# Altium footprint library mosfets.PcbLib: 5 footprints
Each footprint in its own frame and in the unit in brackets; x right, y up, seen from the top. Pads: shape width x height; smd on the part's side, far side on the other; paste and mask are expansions set on the pad; w line width, h text height; cw(c..) or ccw(c..) is an arc to the next point about the centre after c.
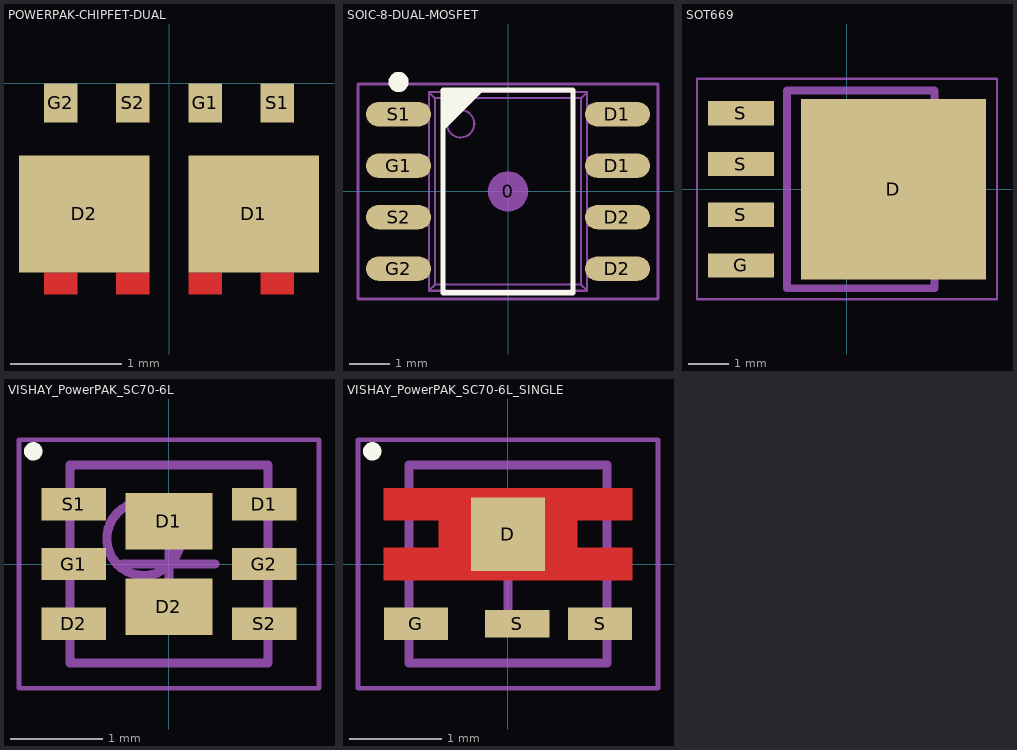
[diagram p0: the footprints below, top view; thin cyan lines are the x and y axes]

## POWERPAK-CHIPFET-DUAL [mm]
pads (6):
  rect 1.175x1.05 smd: D1(0.763,-1.175) D2(-0.763,-1.175)
  rect 0.3x0.35 smd: G1(0.325,-0.175) G2(-0.975,-0.175) S1(0.975,-0.175) S2(-0.325,-0.175)
Top Layer:
  rectangle: 0.825,-1.9 1.125,-1.7
  rectangle: 0.175,-1.9 0.475,-1.7
  rectangle: -0.475,-1.9 -0.175,-1.7
  rectangle: -1.125,-1.9 -0.825,-1.7
3D body: height 0.75, standoff 0, extent -1.5,-1.9 1.5,0

## SOIC-8-DUAL-MOSFET [mm]
pads (9):
  round 1 on Mech15: 0(0,0)
  oval 1.6x0.6 smd: D1(2.7,0.635) D1(2.7,1.905) D2(2.7,-1.905) D2(2.7,-0.635) G1(-2.7,0.635) G2(-2.7,-1.905) S1(-2.7,1.905) S2(-2.7,-0.635)
Top Overlay:
  circle w0.25: c-2.7,2.7 r0.125
  region: -1.6,2.5 -0.6,2.5 -1.6,1.5
  lines w0.127: -1.6,-2.5 -1.6,2.5 1.6,2.5 1.6,-2.5 -1.6,-2.5
Mechanical 13:
  circle w0.05: c-1.17,1.67 r0.338
  lines w0.05: -2.631,-2.115 -2.631,-1.695 ; -2.631,-0.845 -2.631,-0.425 ; -2.631,0.425 -2.631,0.845 ; -2.631,1.695 -2.631,2.115 ; -2.543,-2.115 -2.543,-1.695 ; -2.543,-0.845 -2.543,-0.425 ; -2.543,0.425 -2.543,0.845 ; -2.543,1.695 -2.543,2.115 ; -2.403,-2.115 -2.403,-1.695 ; -2.403,-0.845 -2.403,-0.425 ; -2.403,0.425 -2.403,0.845 ; -2.403,1.695 -2.403,2.115 ; -2.113,-2.115 -2.113,-1.695 ; -2.113,-0.845 -2.113,-0.425 ; -2.113,0.425 -2.113,0.845 ; -2.113,1.695 -2.113,2.115 ; -1.95,-2.115 -3,-2.115 -3,-1.695 -1.95,-1.695 ; -1.95,-0.845 -3,-0.845 -3,-0.425 -1.95,-0.425 ; -1.95,0.425 -3,0.425 -3,0.845 -1.95,0.845 ; -1.95,1.695 -3,1.695 -3,2.115 -1.95,2.115 ; 1.95,-2.115 3,-2.115 3,-1.695 1.95,-1.695 ; 1.95,-0.845 3,-0.845 3,-0.425 1.95,-0.425 ; 1.95,0.425 3,0.425 3,0.845 1.95,0.845 ; 1.95,1.695 3,1.695 3,2.115 1.95,2.115 ; 2.113,-2.115 2.113,-1.695 ; 2.113,-0.845 2.113,-0.425 ; 2.113,0.425 2.113,0.845 ; 2.113,1.695 2.113,2.115 ; 2.403,-2.115 2.403,-1.695 ; 2.403,-0.845 2.403,-0.425 ; 2.403,0.425 2.403,0.845 ; 2.403,1.695 2.403,2.115 ; 2.543,-2.115 2.543,-1.695 ; 2.543,-0.845 2.543,-0.425 ; 2.543,0.425 2.543,0.845 ; 2.543,1.695 2.543,2.115 ; 2.631,-2.115 2.631,-1.695 ; 2.631,-0.845 2.631,-0.425 ; 2.631,0.425 2.631,0.845 ; 2.631,1.695 2.631,2.115 ; -1.95,-2.45 1.95,-2.45 ; -1.95,-2.45 -1.95,2.45 ; -1.95,-2.45 -1.801,-2.301 ; -1.95,2.45 -1.801,2.301 ; -1.95,2.45 1.95,2.45 ; -1.801,-2.301 1.801,-2.301 ; -1.801,-2.301 -1.801,2.301 ; -1.801,2.301 1.801,2.301 ; 1.801,-2.301 1.95,-2.45 ; 1.801,-2.301 1.801,2.301 ; 1.801,2.301 1.95,2.45 ; 1.95,-2.45 1.95,2.45
Mechanical 15:
  lines w0.076: -3.7,-2.65 -3.7,2.65 3.7,2.65 3.7,-2.65 -3.7,-2.65
3D body "CircuitWorks-SO-8.step": height 1.46, standoff 0.01, extent -2.864,-2.447 2.914,2.455

## SOT669 [mil]
height 39.37
pads (5):
  rect 182x178 smd: D(46,0)
  rect 65x24 smd: G(-104.33,-75) S(-104.33,-25) S(-104.33,25) S(-104.33,75)
Top Paste:
  region: 0,0 10,0 10,10 0,10
  region: 0,0 10,0 10,10 0,10
  region: 0,0 10,0 10,10 0,10
  region: 0,0 10,0 10,10 0,10
Mechanical 16:
  lines w7.87: -59.06,-97.44 86.61,-97.44 86.61,-79.02 98,-79.02 119,-55.67 119,56 98,80 86.61,80 86.61,97.44 -59.06,97.44 -59.06,-97.44
Mechanical 27:
  circle w2: c0,0 r14
  lines w2: -19.68,0 20,0 ; 0,-19.68 0,20 ; -147.64,-108.27 148,-108.27 148,109 -147.64,109 -147.64,-108.27
3D body "User Library-LFPAK.STEP": height 42.91, standoff -0.39, extent -124.99,-99.41 134.85,97.44

## VISHAY_PowerPAK_SC70-6L [mm] "SON, 6-Leads, Body 2,07x2,07mm, Pitch 0,65mm, IPC Medium Density"
height 0.8
pads (8):
  rect 0.95x0.613 smd: D1(0,0.467) D2(0,-0.467)
  rect 0.7x0.35 smd: D1(1.035,0.65) D2(-1.035,-0.65) G1(-1.035,0) G2(1.035,0) S1(-1.035,0.65) S2(1.035,-0.65)
Top Overlay:
  circle w0.1: c-1.475,1.225 r0.05
Top 3D Body:
  circle w0.1: c-0.275,0.275 r0.4
  lines w0.1: -1.075,-1.075 -1.075,1.075 1.075,1.075 1.075,-1.075 -1.075,-1.075
Mechanical 15:
  lines w0.05: -1.63,-1.35 -1.63,1.35 1.63,1.35 1.63,-1.35 -1.63,-1.35
  lines w0.1: -0.5,0 0.5,0 ; 0,-0.5 0,0.5
3D body "SON65P210X80-6N.step": height 0.8, standoff 0, extent -1.076,-1.075 1.076,1.075

## VISHAY_PowerPAK_SC70-6L_SINGLE [mm] "SON, 6-Leads, Body 2,07x2,07mm, Pitch 0,65mm, IPC Medium Density"
height 0.8
pads (4):
  rect 0.8x0.8 smd: D(0,0.325)
  rect 0.7x0.35 smd: G(-1,-0.65) S(1,-0.65)
  rect 0.7x0.3 smd: S(0.1,-0.65)
Top Layer:
  region: -1.35,0.825 1.35,0.825 1.35,0.475 0.75,0.475 0.75,0.175 1.35,0.175 1.35,-0.175 -1.35,-0.175 -1.35,0.175 -0.75,0.175 -0.75,0.475 -1.35,0.475
Top Overlay:
  circle w0.1: c-1.475,1.225 r0.05
Top 3D Body:
  circle w0.1: c-0.275,0.275 r0.4
  lines w0.1: -1.075,-1.075 -1.075,1.075 1.075,1.075 1.075,-1.075 -1.075,-1.075
Mechanical 15:
  lines w0.05: -1.63,-1.35 -1.63,1.35 1.63,1.35 1.63,-1.35 -1.63,-1.35
  lines w0.1: -0.5,0 0.5,0 ; 0,-0.5 0,0.5
3D body "SON65P210X80-6N.step": height 0.8, standoff 0, extent -1.076,-1.075 1.076,1.075